# Altium schematic symbol library UOMP_capacitors.SchLib: 43 symbols
Pins are listed as number, name and electrical type; pins without a type are passive.

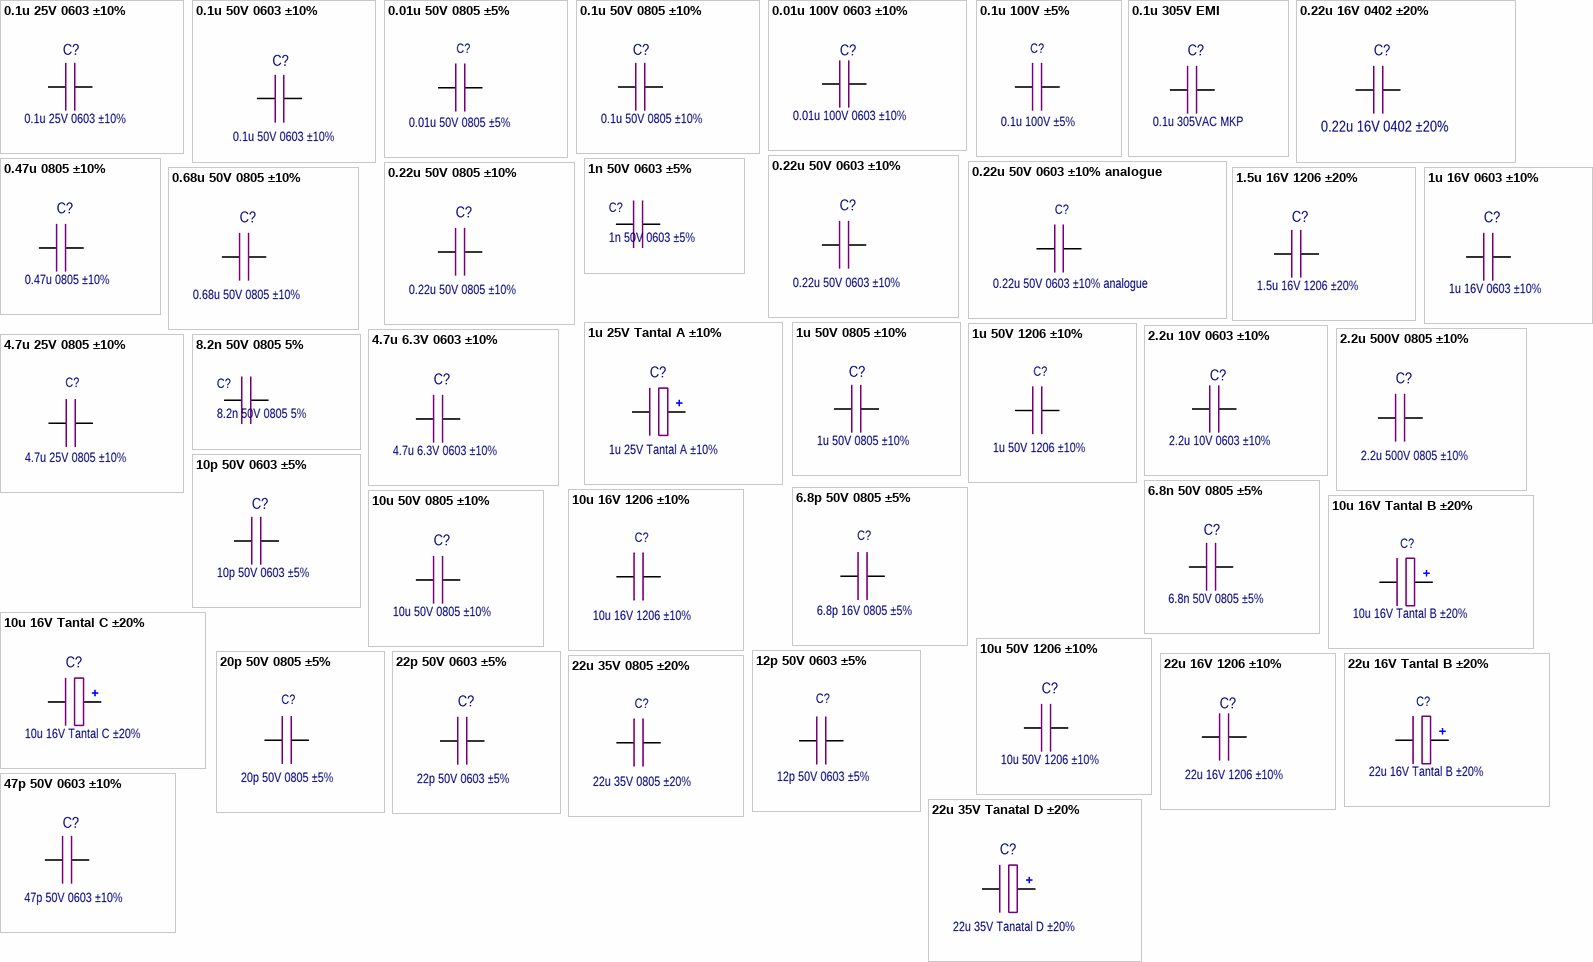
[diagram p0: symbols 0.1u 25V 0603 ±10% to 47p 50V 0603 ±10%]

## 0.1u 25V 0603 ±10%
designator C?
Code: 6219304381; Name: Конденсатор CC0603KRX7R8BB105, Yageo
footprint CAP: SMD 0603 MD IPC 782
pins: 1, 2

## 0.1u 50V 0603 ±10%
designator C?
CC0603KRX7R9BB104; Code: 6279259871; Name: Конденсатор X7R 50V 0,1uF +-10% 0603
footprint CAP: SMD 0603 MD IPC 782
pins: 1, 2

## 0.01u 50V 0805 ±5%
designator C?
Code: 6279261451; Name: Конденсатор X7R 50V  0,01uF±5%  0805
footprint CAP: SMD 0805 MD IPC 782
pins: 1, 2

## 0.1u 50V 0805 ±10%
designator C?
Code: 6279254871; Name: Конденсатор X7R 50V 0,1uF ±10% 0805
footprint CAP: SMD 0805 MD IPC 782
pins: 1, 2

## 0.01u 100V 0603 ±10%
designator C?
Code: 6270003321; Name: Конденсатор СС0603KRX7R0BB104, Yageo
footprint CAP: SMD 0603 MD IPC 782
pins: 1, 2

## 0.1u 100V ±5%
designator C?
Code: 6210001381; Name: Конденсатор B32529C1104J, Epcos
footprint CAP: MKT
pins: 1, 2

## 0.1u 305V EMI
designator C?, comment 0.1u 305VAC MKP
Code: 6219163292; Name: Конденсатор помехоподавляющий B32922-C3104-C3104-M-X2 0.1 uF350V, Epcos
footprint CAP: MKP 305VAC
pins: 1, 2

## 0.22u 16V 0402 ±20%
designator C?
Code: 6270003561; Name: Конденсатор CC0402MRX5R7BB224
footprint CAP: SMD 0603 MD IPC 782
pins: 1, 2

## 0.22u 50V 0603 ±10%
designator C?
Code: 6263009461; Name: Конденсатор 0603B224K500NT, Fenghua
footprint CAP: SMD 0603 MD IPC 782
pins: 1, 2

## 0.22u 50V 0603 ±10% analogue
designator C?
Code: 6270001221; Name: Конденсатор X7R 50V 0,22uF±10% 0603
footprint CAP: SMD 0603 MD IPC 782
pins: 1, 2

## 0.22u 50V 0805 ±10%
designator C?
Name: Конденсатор 0805B224K500NT, Fenghua
footprint CAP: SMD 0805 MD IPC 782
pins: 1, 2

## 0.47u 0805 ±10%
designator C?
Code: 6279254811; Name: Конденсатор X7R 50V 0,47uF ±10% 0805
footprint CAP: SMD 0805 MD IPC 782
pins: 1, 2

## 0.68u 50V 0805 ±10%
designator C?
Name: Конденсатор 0805B224K500NT, Fenghua
footprint CAP: SMD 0805 MD IPC 782
pins: 1, 2

## 1.5u 16V 1206 ±20%
designator C?
Code: 6219231111; Name: Конденсатор Y5V 16V 1.5uF +-20%
footprint CAP: SMD 1206 MD IPC 782
pins: 1, 2

## 1n 50V 0603 ±5%
designator C?
pins: 1, 2

## 1u 16V 0603 ±10%
designator C?
Code: 62193105441; Name: Конденсатор 0603-NPO-25В-1000
footprint CAP: SMD 0603 MD IPC 782
pins: 1, 2

## 1u 25V Tantal A ±10%
designator C?
Code: 6260000351; Name: Конденсатор танталовый 25V 1uF +
footprint CAP: TANTAL A
pins: 1, 2

## 1u 50V 0805 ±10%
designator C?
Code: 6279254881; Name: Конденсатор X7R 50V 1uF ±10% 0805
footprint CAP: SMD 0805 MD IPC 782
pins: 1, 2

## 1u 50V 1206 ±10%
designator C?
Code: 6279255572; Name: Конденсатор X7R 50V 1uF±10% 1206
footprint CAP: SMD 1206 MD IPC 782
pins: 1, 2

## 2.2u 10V 0603 ±10%
designator C?
Code: 6219314161; Nsme: Конденсатор CC0603KRX7R6BB225, Yageo
footprint CAP: SMD 0805 MD IPC 782
pins: 1, 2

## 2.2u 500V 0805 ±10%
designator C?
Code: 6270003441; Name: Конденсатор CC0805KKX7R9BB225, Yageo
footprint CAP: SMD 0805 MD IPC 782
pins: 1, 2

## 4.7u 6.3V 0603 ±10%
designator C?
Code: 6279375751; Name: Конденсатор CC0603KRX7R5BB475, Yageo
footprint CAP: SMD 0603 MD IPC 782
pins: 1, 2

## 4.7u 25V 0805 ±10%
designator C?
Code: 6270000501; Name: Конденсатор X7R 25V 4,7uF±10% 0805
footprint CAP: SMD 0805 MD IPC 782
pins: 1, 2

## 6.8n 50V 0805 ±5%
designator C?
Code: 6279352311; Name: Конденсатор NPO 50V 6800pF ±5% 0805
footprint CAP: SMD 0805 MD IPC 782
pins: 1, 2

## 6.8p 50V 0805 ±5%
designator C?, comment 6.8p 16V 0805 ±5%
Code: 6219233221; Name: Конденсатор COG 16V 6.8pF±5% 0805
footprint CAP: SMD 0805 MD IPC 782
pins: 1, 2

## 8.2n 50V 0805 5%
designator C?
pins: 1, 2

## 10p 50V 0603 ±5%
designator C?
CC0603_100_50V_5%; Code: 6279238271; Name: Конденсатор NPO 50V 10 pF+-5% 0603
footprint CAP: SMD 0603 MD IPC 782
pins: 1, 2

## 10u 16V 1206 ±10%
designator C?
Code: 6279264241; Name: Конденсатор X7R 16V 10uF±10% 1206
footprint CAP: SMD 1206 MD IPC 782
pins: 1, 2

## 10u 16V Tantal B ±20%
designator C?
Code: 6261594211; Name: Конденсатор танталовый 16V 10uF±20% B
footprint CAP: TANTAL B
pins: 1, 2

## 10u 16V Tantal С ±20%
designator C?
Code: 6261599311; Name: Конденсатор танталовый 16V 10uF
footprint CAP: TANTAL C
pins: 1, 2

## 10u 50V 0805 ±10%
designator C?
Code: 6289735441; Name: Конденсатор 12065D106KAT2A, AVX
footprint CAP: SMD 0805 MD IPC 782
pins: 1, 2

## 10u 50V 1206 ±10%
designator C?
Code: 6289735441; Name: Конденсатор 12065D106KAT2A, AVX
footprint CAP: SMD 1206 MD IPC 782
pins: 1, 2

## 12p 50V 0603 ±5%
designator C?
Code: 6279238291; Name: Конденсатор NP0 50V 12pF±5% 0603
footprint CAP: SMD 0603 MD IPC 782
pins: 1, 2

## 20p 50V 0805 ±5%
designator C?
Code: 6279351631; Name: Конденсатор NP0 50V 20pF±5% 0805
footprint CAP: SMD 0805 MD IPC 782
pins: 1, 2

## 22p 50V 0603 ±5%
designator C?
Code: 6219310401; Name: Конденсатор 0603CG220J500NT, Fenghua
footprint CAP: SMD 0603 MD IPC 782
pins: 1, 2

## 22u 16V 1206 ±10%
designator C?
Code: 6263008181; Name: Конденсатор CC1206MKX7RBB226, Yageo
footprint CAP: SMD 1206 MD IPC 782
pins: 1, 2

## 22u 16V Tantal B ±20%
designator C?
Code: 6261627211; Name: Конденсатор танталовый 16V 22uF±20% B
footprint CAP: TANTAL B
pins: 1, 2

## 22u 35V 0805 ±20%
designator C?
Code: 6279375691; Name: Конденсатор X5R 35V 22uF±20% 0805
footprint CAP: SMD 0805 MD IPC 782
pins: 1, 2

## 22u 35V Tanatal D ±20%
designator C?
Code: 6261618251; Name: Конденсатор танталовый 35V 22uF
footprint CAP: TANTAL D
pins: 1, 2

## 47p 50V 0603 ±10%
designator C?
Code: 6279259841; Name: Конденсатор X7R 50V 0,047uF +-10% 0603
footprint CAP: SMD 0603 MD IPC 782
pins: 1, 2

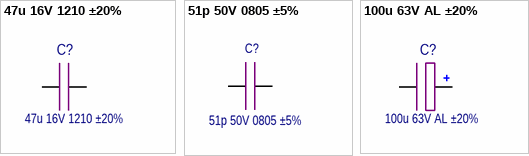
[diagram p1: symbols 47u 16V 1210 ±20% to 100u 63V AL ±20%]

## 47u 16V 1210 ±20%
designator C?
Code: 6289734921; Name: Конденсатор GRM32ER61C476ME15L
footprint CAP: SMD 1210 MD IPC 782
pins: 1, 2

## 51p 50V 0805 ±5%
designator C?
Code: 6279351741; Name: Конденсатор NP0 50V 51pF±5% 0805
footprint CAP: SMD 0805 MD IPC 782
pins: 1, 2

## 100u 63V AL ±20%
designator C?
CA063M0100REG-1010; Code: 6270002401; Name: Конденсатор CA063M0100REG-1010
footprint CAP: AL 10x10.5
pins: 1, 2